# Altium footprint library Diodes_sizes.PcbLib: 7 footprints
Each footprint in its own frame and in the unit in brackets; x right, y up, seen from the top. Pads: shape width x height; smd on the part's side, far side on the other; paste and mask are expansions set on the pad; w line width, h text height; cw(c..) or ccw(c..) is an arc to the next point about the centre after c.
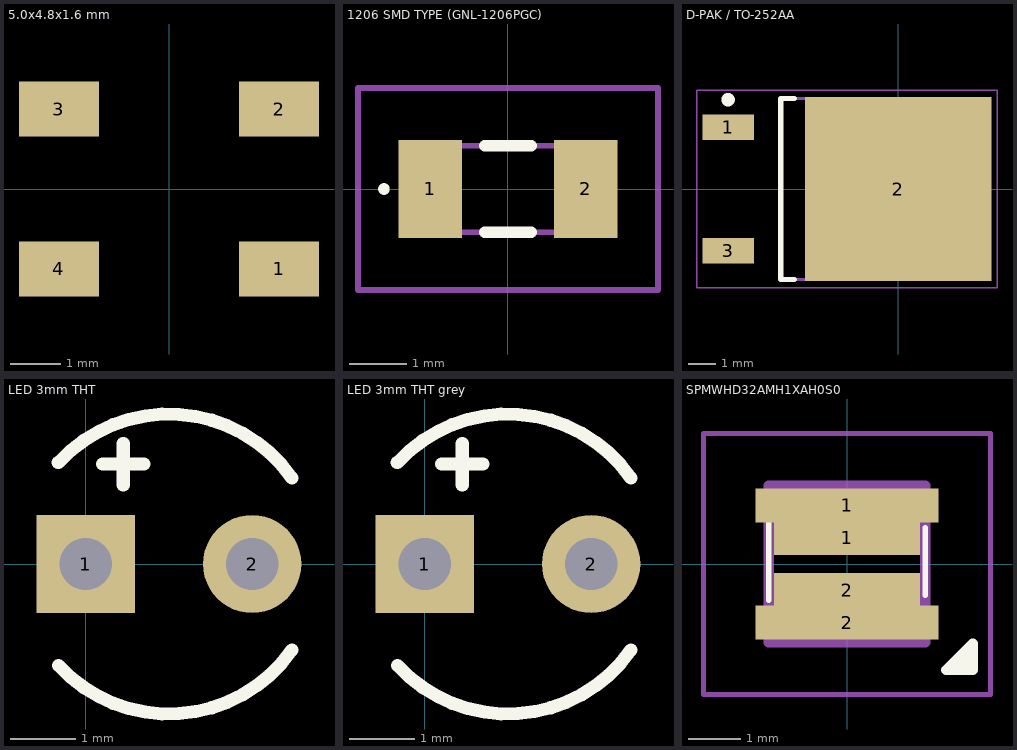
[diagram p0: the footprints below, top view; thin cyan lines are the x and y axes]

## 5.0x4.8x1.6 mm [mm]
pads (4):
  rect 1.6x1.1 smd: 1(2.2,-1.6) 2(2.2,1.6) 3(-2.2,1.6) 4(-2.2,-1.6)
3D body: height 0.01, standoff 0, extent -2.5,1.15 -1.7,2.05
3D body: height 0.1, standoff 0, extent 1.7,1.2 2.5,2.1
3D body: height 0.01, standoff 0, extent 1.7,-2.05 2.5,-1.15
3D body: height 0.01, standoff 0, extent -2.5,-2.05 -1.7,-1.15
3D body: height 1.5, standoff 0.1, extent -2.45,-2.45 2.45,2.45

## 1206 SMD TYPE (GNL-1206PGC) [mm]
pads (2):
  rect 1.1x1.7 smd: 1(-1.35,0) 2(1.35,0)
Top Overlay:
  lines w0.1: -2.2,0 cw(c-2.15,0) -2.1,0 cw(c-2.15,0) -2.2,0
  lines w0.2: -0.4,-0.75 0.4,-0.75 ; -0.4,0.75 0.4,0.75
Mechanical 13:
  lines w0.1: -1.5,-0.75 -1.5,0.75 1.5,0.75 1.5,-0.75 -1.5,-0.75
Mechanical 15:
  lines w0.1: -2.6,-1.75 -2.6,1.75 2.6,1.75 2.6,-1.75 -2.6,-1.75
3D body "15412085A9000.stp": height 1.21, standoff 0, extent -1.5,-0.75 1.5,0.75

## D-PAK / TO-252AA [mm]
pads (3):
  rect 1.9x0.95 smd: 1(-6.305,2.28) 3(-6.305,-2.28)
  rect 6.9x6.8 smd: 2(-0.005,0)
Top Overlay:
  circle w0.25: c-6.305,3.305 r0.125
  lines w0.2: -3.855,-3.35 -4.355,-3.35 -4.355,3.35 -3.855,3.35
Mechanical 13:
  lines w0.1: -4.355,-3.35 -4.355,3.35 1.845,3.35 1.845,-3.35 -4.355,-3.35
Mechanical 15:
  lines w0.05: -7.455,-3.65 -7.455,3.65 3.645,3.65 3.645,-3.65 -7.455,-3.65
  lines w0.1: -2.405,0 -1.405,0 ; -1.905,-0.5 -1.905,0.5
3D body: height 2.38, standoff 0, extent -4.355,-3.35 1.845,3.35

## LED 3mm THT [mm]
pads (2):
  rect 1.5x1.5 hole 0.8: 1(0,0)
  round 1.5 hole 0.8: 2(2.54,0)
Top Overlay:
  lines w0.2: -0.423,1.547 -0.418,1.547 cw(c1.27,0) 3.146,1.313 ; -0.418,-1.547 ccw(c1.27,0) 3.146,-1.313 ; 0.254,1.524 0.889,1.524 ; 0.572,1.206 0.572,1.841
3D body "LED_3 mm GREEN.x_b": height 5.16, standoff -16.2, extent -0.23,-1.765 3.04,1.765

## LED 3mm THT grey [mm]
pads (2):
  rect 1.5x1.5 hole 0.8: 1(0,0)
  round 1.5 hole 0.8: 2(2.54,0)
Top Overlay:
  lines w0.2: -0.423,1.547 -0.418,1.547 cw(c1.27,0) 3.146,1.313 ; -0.418,-1.547 ccw(c1.27,0) 3.146,-1.313 ; 0.254,1.524 0.889,1.524 ; 0.572,1.206 0.572,1.841
3D body "LED_3 mm GREEN.x_b": height 5.16, standoff -16.2, extent -0.23,-1.765 3.04,1.765

## Spacer 9.5mm led 3mm [mm]
3D body "FIX-LEDS-9.5.STEP": height 9.5, standoff 0, extent -2,-2 2,2

## SPMWHD32AMH1XAH0S0 [mm]
pads (4):
  rect 2.8x0.65 smd: 1(0,0.5) 2(0,-0.5)
  rect 3.5x0.65 smd: 1(0,1.125) 2(0,-1.125)
Top Overlay:
  lines w0.1: -1.5,-0.7 -1.5,0.8 ; 1.5,-0.6 1.5,0.7
  lines w0.2: 2.159,-2.032 2.413,-1.778 ; 1.905,-2.032 2.413,-1.524 2.413,-2.032 1.905,-2.032
Mechanical 13:
  lines w0.2: -1.5,-1.5 -1.5,1.5 1.5,1.5 1.5,-1.5 -1.5,-1.5
Mechanical 15:
  lines w0.1: -2.75,-2.5 -2.75,2.5 2.75,2.5 2.75,-2.5 -2.75,-2.5
3D body "LED SMD White 3030.stp": height 0.65, standoff 0, extent -1.6,-1.475 1.6,1.475